# Altium schematic symbol library 2D212A_OS OSM.Schlib: 1 symbol
Pins are listed as number, name and electrical type; pins without a type are passive.

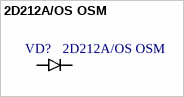
[diagram p0: symbol 2D212A/OS OSM]

## 2D212A/OS OSM
designator VD?
Назначение: Диод; Наименование: 2Д212А/ОС ОСМ
footprint 2Д212
pins: 1, 2